# Altium footprint library 101181940001LF.PcbLib: 1 footprints
Each footprint in its own frame and in the unit in brackets; x right, y up, seen from the top. Pads: shape width x height; smd on the part's side, far side on the other; paste and mask are expansions set on the pad; w line width, h text height; cw(c..) or ccw(c..) is an arc to the next point about the centre after c.
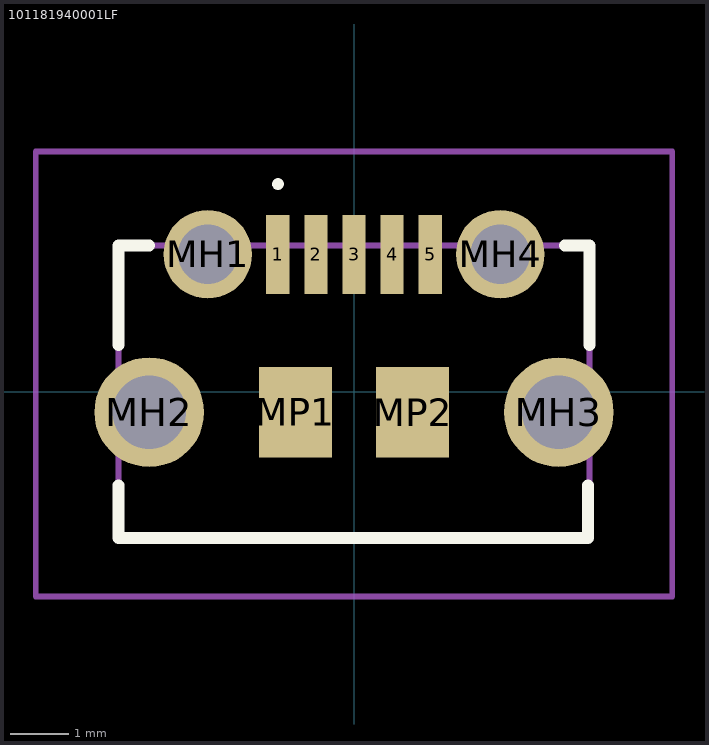
[diagram p0: the footprint, top view; thin cyan lines are the x and y axes]

## 101181940001LF [mm]
pads (11):
  rect 0.4x1.35 smd: 1(-1.3,2.35) 2(-0.65,2.35) 3(0,2.35) 4(0.65,2.35) 5(1.3,2.35)
  round 1.515 hole 1.01: MH1(-2.5,2.35) MH4(2.5,2.35)
  round 1.875 hole 1.25: MH2(-3.5,-0.35) MH3(3.5,-0.35)
  rect 1.25x1.55 smd: MP1(-1,-0.35) MP2(1,-0.35)
Top Overlay:
  lines w0.1: -1.3,3.5 -1.3,3.5 ; -1.3,3.5 ccw(c-1.3,3.55) -1.3,3.6 ; -1.3,3.5 cw(c-1.3,3.55) -1.3,3.6 ; -1.3,3.6 -1.3,3.6
  lines w0.2: -4.025,-1.6 -4.025,-2.5 4,-2.5 4,-1.6 ; -4.025,0.8 -4.025,2.5 -3.5,2.5 ; 3.6,2.5 4.025,2.5 4.025,0.8
Mechanical 15:
  lines w0.1: -4.025,-2.5 4.025,-2.5 4.025,2.5 -4.025,2.5 -4.025,-2.5
Mechanical 20:
  lines w0.1: -5.438,-3.5 5.438,-3.5 5.438,4.107 -5.438,4.107 -5.438,-3.5